# EAGLE library part HEADER-2X5 (library pedalier)
Header 2x5 Manufacturer: FCI Product nr: 54202-G0805LF Digikey: 609-4723-ND
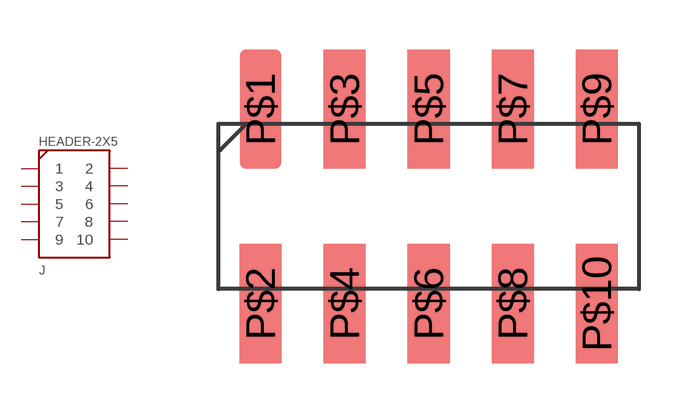
[diagram p2: symbol with the pads of HEADER-2X5; footprint HEADER-2X5]

Designator prefix J

## HEADER-2X5  [HEADER-2X5]
P$1  1
P$2  2
P$3  3
P$4  4
P$5  5
P$6  6
P$7  7
P$8  8
P$9  9
P$10  10

## Footprint HEADER-2X5 (pad centres in mm)
smd 1.27 x 3.6: P$1 -5.08,2.94; P$2 -5.08,-2.94; P$3 -2.54,2.94; P$4 -2.54,-2.94; P$5 0,2.94; P$6 0,-2.94; P$7 2.54,2.94; P$8 2.54,-2.94; P$9 5.08,2.94; P$10 5.08,-2.94